# EAGLE library part BEAGLEBOARD (library mecanum-symbols)
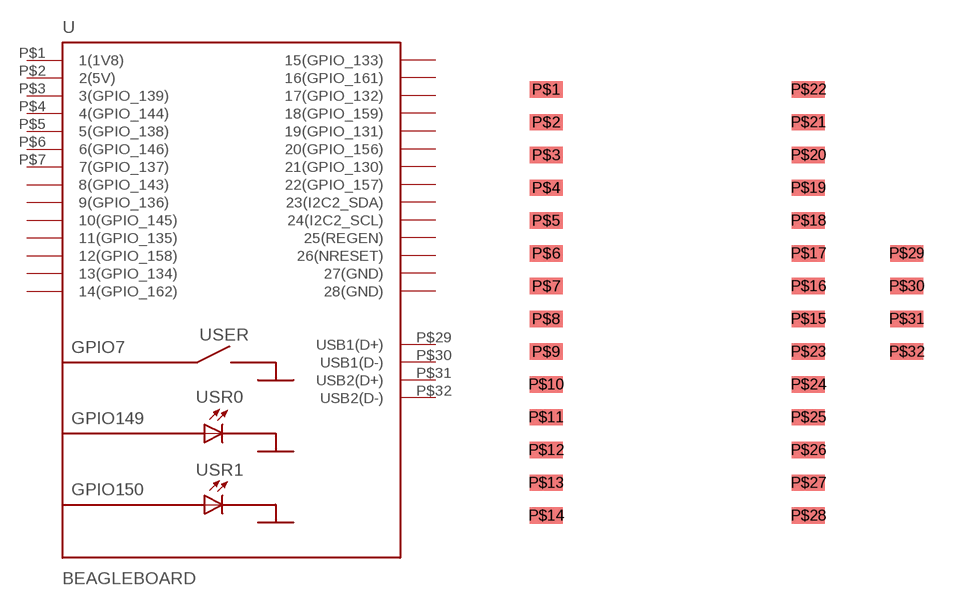
[diagram p0: symbol with the pads of BEAGLEBOARD; footprint BEAGLEBOARD]

Designator prefix -

## BEAGLEBOARD  [BEAGLEBOARD]
P$1  1(1V8)
P$2  2(5V)
P$3  3(GPIO_139)
P$4  4(GPIO_144)
P$5  5(GPIO_138)
P$6  6(GPIO_146)
P$7  7(GPIO_137)
P$8  8(GPIO_143)
P$9  9(GPIO_136)
P$10  10(GPIO_145)
P$11  11(GPIO_135)
P$12  12(GPIO_158)
P$13  13(GPIO_134)
P$14  14(GPIO_162)
P$15  15(GPIO_133)
P$16  16(GPIO_161)
P$17  17(GPIO_132)
P$18  18(GPIO_159)
P$19  19(GPIO_131)
P$20  20(GPIO_156)
P$21  21(GPIO_130)
P$22  22(GPIO_157)
P$23  23(I2C2_SDA)
P$24  24(I2C2_SCL)
P$25  25(REGEN)
P$26  26(NRESET)
P$27  27(GND)
P$28  28(GND)
P$29  USB1(D+)
P$30  USB1(D-)
P$31  USB2(D+)
P$32  USB2(D-)

## Footprint BEAGLEBOARD (pad centres in mm)
smd 1.27 x 0.635: P$1 -5.08,8.89; P$2 -5.08,7.62; P$3 -5.08,6.35; P$4 -5.08,5.08; P$5 -5.08,3.81; P$6 -5.08,2.54; P$7 -5.08,1.27; P$8 -5.08,0; P$9 -5.08,-1.27; P$10 -5.08,-2.54; P$11 -5.08,-3.81; P$12 -5.08,-5.08; P$13 -5.08,-6.35; P$14 -5.08,-7.62; P$15 5.08,0; P$16 5.08,1.27; P$17 5.08,2.54; P$18 5.08,3.81; P$19 5.08,5.08; P$20 5.08,6.35; P$21 5.08,7.62; P$22 5.08,8.89; P$23 5.08,-1.27; P$24 5.08,-2.54; P$25 5.08,-3.81; P$26 5.08,-5.08; P$27 5.08,-6.35; P$28 5.08,-7.62; P$29 8.89,2.54; P$30 8.89,1.27; P$31 8.89,0; P$32 8.89,-1.27